# Altium footprint library INFINITY.Waveguide.PcbLib: 13 footprints
Each footprint in its own frame and in the unit in brackets; x right, y up, seen from the top. Pads: shape width x height; smd on the part's side, far side on the other; paste and mask are expansions set on the pad; w line width, h text height; cw(c..) or ccw(c..) is an arc to the next point about the centre after c.
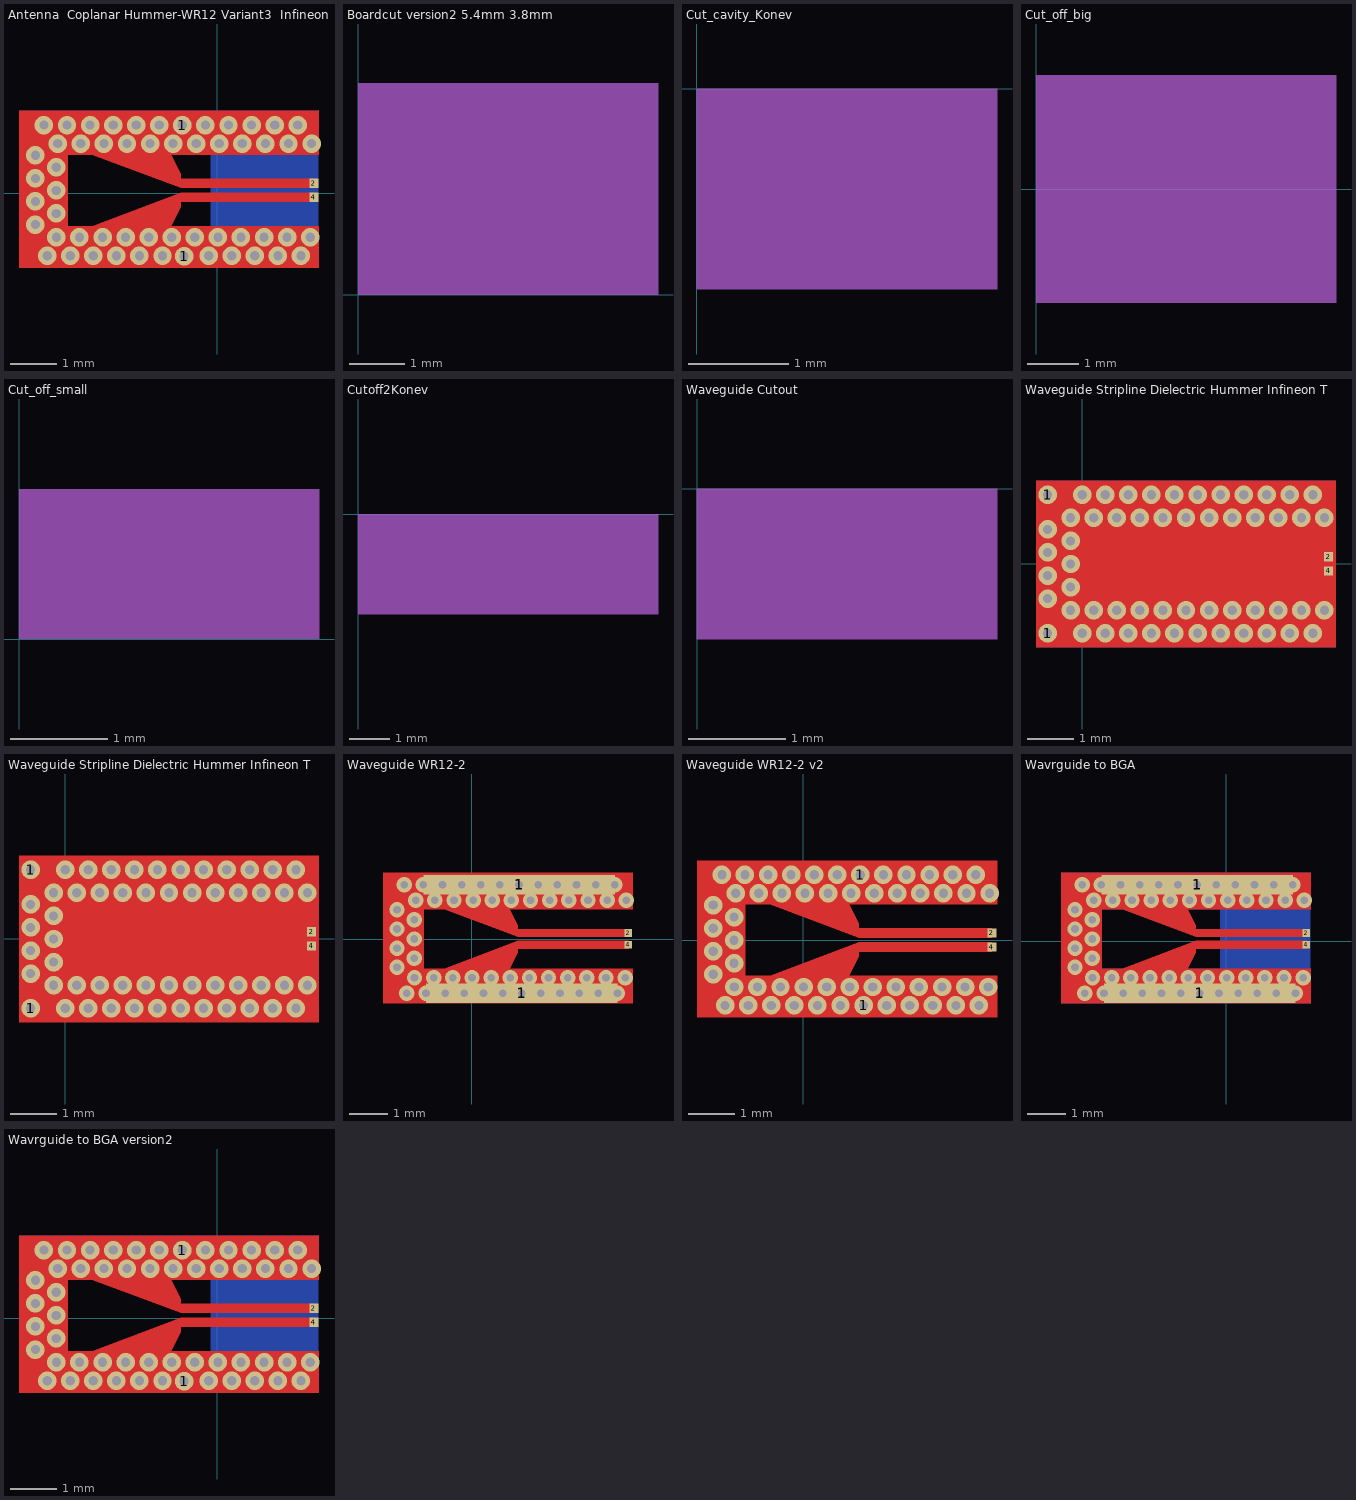
[diagram p0: the footprints below, top view; thin cyan lines are the x and y axes]

## Antenna  Coplanar Hummer-WR12 Variant3  Infineon Technologies [mm]
pads (4):
  round 0.4 smd paste+0 mask+0: 1(-0.76,1.48) 1(-0.724,-1.361)
  rect 0.2x0.2 smd paste+0 mask+0: 2(2.09,0.22) 4(2.09,-0.085)
via -2.46,1.08 diameter 0.4 hole 0.2
via -1.96,1.08 diameter 0.4 hole 0.2
via -2.76,1.48 diameter 0.4 hole 0.2
via -2.96,1.08 diameter 0.4 hole 0.2
via -2.26,1.48 diameter 0.4 hole 0.2
via -0.26,1.48 diameter 0.4 hole 0.2
via -0.46,1.08 diameter 0.4 hole 0.2
via -0.76,1.48 diameter 0.4 hole 0.2
via -0.96,1.08 diameter 0.4 hole 0.2
via -1.26,1.48 diameter 0.4 hole 0.2
via -1.46,1.08 diameter 0.4 hole 0.2
via -1.76,1.48 diameter 0.4 hole 0.2
via 0.04,1.08 diameter 0.4 hole 0.2
via 0.24,1.48 diameter 0.4 hole 0.2
via 0.54,1.08 diameter 0.4 hole 0.2
via 0.74,1.48 diameter 0.4 hole 0.2
via 1.04,1.08 diameter 0.4 hole 0.2
via 1.24,1.48 diameter 0.4 hole 0.2
via 1.54,1.08 diameter 0.4 hole 0.2
via 2.04,1.08 diameter 0.4 hole 0.2
via 1.74,1.48 diameter 0.4 hole 0.2
via -3.76,1.48 diameter 0.4 hole 0.2
via -3.26,1.48 diameter 0.4 hole 0.2
via -3.46,1.08 diameter 0.4 hole 0.2
via -3.945,0.825 diameter 0.4 hole 0.2
via -2.69,-1.35 diameter 0.4 hole 0.2
via -2.19,-1.35 diameter 0.4 hole 0.2
via -1.69,-1.35 diameter 0.4 hole 0.2
via -1.19,-1.35 diameter 0.4 hole 0.2
via -0.724,-1.361 diameter 0.4 hole 0.2
via -0.19,-1.35 diameter 0.4 hole 0.2
via 1.31,-1.35 diameter 0.4 hole 0.2
via 0.81,-1.35 diameter 0.4 hole 0.2
via 0.31,-1.35 diameter 0.4 hole 0.2
via 1.81,-1.35 diameter 0.4 hole 0.2
via -3.19,-1.35 diameter 0.4 hole 0.2
via -3.69,-1.35 diameter 0.4 hole 0.2
via -2.49,-0.95 diameter 0.4 hole 0.2
via -1.99,-0.95 diameter 0.4 hole 0.2
via -1.49,-0.95 diameter 0.4 hole 0.2
via -0.99,-0.95 diameter 0.4 hole 0.2
via -0.49,-0.95 diameter 0.4 hole 0.2
via 0.01,-0.95 diameter 0.4 hole 0.2
via 1.51,-0.95 diameter 0.4 hole 0.2
via 1.01,-0.95 diameter 0.4 hole 0.2
via 0.51,-0.95 diameter 0.4 hole 0.2
via 2.01,-0.95 diameter 0.4 hole 0.2
via -2.99,-0.95 diameter 0.4 hole 0.2
via -3.49,-0.95 diameter 0.4 hole 0.2
via -3.495,0.565 diameter 0.4 hole 0.2
via -3.495,0.065 diameter 0.4 hole 0.2
via -3.495,-0.435 diameter 0.4 hole 0.2
via -3.945,0.325 diameter 0.4 hole 0.2
via -3.945,-0.175 diameter 0.4 hole 0.2
via -3.945,-0.675 diameter 0.4 hole 0.2
Metall 1:
  region: -3.249,-0.71 -3.249,0.84 -2.719,0.84 -0.798,0.12 2.09,0.12 2.09,0.32 -0.798,0.32 -0.798,0.423 -1.005,0.84 2.201,0.84 2.201,1.79 -4.299,1.79 -4.299,-1.61 2.201,-1.61 2.201,-0.71 -0.999,-0.71 -0.798,-0.295 -0.798,-0.185 2.09,-0.185 2.09,0.015 -0.798,0.015 -2.714,-0.71
Metall 3:
  region: 2.2,1.79 -4.3,1.79 -4.3,0.84 2.2,0.84
  region: 2.2,-0.71 -4.3,-0.71 -4.3,-1.61 2.2,-1.61
  region: 2.2,1.79 2.19,1.8 2.19,-1.6 2.18,-1.61 -0.15,-1.61 -0.15,1.79
  region: -4.3,1.79 -4.3,-1.61 -3.25,-1.61 -3.25,1.79

## Boardcut version2 5.4mm 3.8mm [mm]
height 5
Mechanical 1:
  cavity: 0,0 5.4,0 5.4,3.8 0,3.8

## Cut_cavity_Konev [mm] "Cut_cavity_Konev"
height 5
Mechanical 1:
  cavity: 0,0 3,0 3,-2 0,-2

## Cut_off_big [mm]
Mechanical 1:
  cavity: 0,2.2 5.8,2.2 5.8,-2.2 0,-2.2

## Cut_off_small [mm] "Cut_off_small"
Mechanical 1:
  cavity: 0,1.55 3.1,1.55 3.1,0 0,0

## Cutoff2Konev [mm]
height 5
Mechanical 13:
  cavity: 0,0 7.5,0 7.5,-2.5 0,-2.5

## Waveguide Cutout [mm]
height 5
Mechanical 13:
  cavity: 0,0 3.099,0 3.099,-1.55 0,-1.55
3D body "Cutout_1.1mm.STEP": height 0, standoff -1.1, extent 0,-1.55 3.099,0

## Waveguide Stripline Dielectric Hummer Infineon Technologies WR-12 version1 [mm]
pads (4):
  round 0.4 smd paste+0 mask+0: 1(-0.75,-1.5) 1(-0.75,1.5)
  rect 0.2x0.2 smd paste+0 mask+0: 2(5.339,0.155) 4(5.339,-0.15)
via 2.5,-1.5 diameter 0.4 hole 0.2
via 0.25,-1 diameter 0.4 hole 0.2
via -0.25,-0.5 diameter 0.4 hole 0.2
via -0.25,0.5 diameter 0.4 hole 0.2
via -0.25,0 diameter 0.4 hole 0.2
via -0.75,-1.5 diameter 0.4 hole 0.2
via -0.75,1.5 diameter 0.4 hole 0.2
via 0.75,-1 diameter 0.4 hole 0.2
via 1.25,-1 diameter 0.4 hole 0.2
via 1.75,-1 diameter 0.4 hole 0.2
via 2.25,-1 diameter 0.4 hole 0.2
via 2.75,-1 diameter 0.4 hole 0.2
via 3.25,-1 diameter 0.4 hole 0.2
via 3.75,-1 diameter 0.4 hole 0.2
via 1.25,1 diameter 0.4 hole 0.2
via 1.75,1 diameter 0.4 hole 0.2
via 2.25,1 diameter 0.4 hole 0.2
via 2.75,1 diameter 0.4 hole 0.2
via 3.25,1 diameter 0.4 hole 0.2
via 3.75,1 diameter 0.4 hole 0.2
via 4.25,1 diameter 0.4 hole 0.2
via 4.75,1 diameter 0.4 hole 0.2
via 5.25,1 diameter 0.4 hole 0.2
via -0.25,-1 diameter 0.4 hole 0.2
via 4.25,-1 diameter 0.4 hole 0.2
via 4.75,-1 diameter 0.4 hole 0.2
via 5.25,-1 diameter 0.4 hole 0.2
via 0.25,1 diameter 0.4 hole 0.2
via 0.75,1 diameter 0.4 hole 0.2
via -0.25,1 diameter 0.4 hole 0.2
via -0.75,0.75 diameter 0.4 hole 0.2
via -0.75,0.25 diameter 0.4 hole 0.2
via -0.75,-0.25 diameter 0.4 hole 0.2
via -0.75,-0.75 diameter 0.4 hole 0.2
via 0,-1.5 diameter 0.4 hole 0.2
via 0.5,-1.5 diameter 0.4 hole 0.2
via 1,-1.5 diameter 0.4 hole 0.2
via 1.5,-1.5 diameter 0.4 hole 0.2
via 2,-1.5 diameter 0.4 hole 0.2
via 3,-1.5 diameter 0.4 hole 0.2
via 3.5,-1.5 diameter 0.4 hole 0.2
via 4,-1.5 diameter 0.4 hole 0.2
via 4.5,-1.5 diameter 0.4 hole 0.2
via 5,-1.5 diameter 0.4 hole 0.2
via 5,1.5 diameter 0.4 hole 0.2
via 4.5,1.5 diameter 0.4 hole 0.2
via 4,1.5 diameter 0.4 hole 0.2
via 3.5,1.5 diameter 0.4 hole 0.2
via 3,1.5 diameter 0.4 hole 0.2
via 2.5,1.5 diameter 0.4 hole 0.2
via 2,1.5 diameter 0.4 hole 0.2
via 1.5,1.5 diameter 0.4 hole 0.2
via 1,1.5 diameter 0.4 hole 0.2
via 0.5,1.5 diameter 0.4 hole 0.2
via 0,1.5 diameter 0.4 hole 0.2
Metall 1:
  region: 0,-0.775 0,0.775 0.53,0.775 2.451,0.055 5.339,0.055 5.339,0.255 2.451,0.255 2.451,0.358 2.244,0.775 5.5,0.775 5.5,1.8 -1,1.8 -1,-1.8 5.5,-1.8 5.5,-0.775 2.25,-0.775 2.451,-0.36 2.451,-0.25 5.339,-0.25 5.339,-0.05 2.451,-0.05 0.535,-0.775
  pour cut-out: 0,-0.775 5.5,-0.775 5.5,0.775 0,0.775
Metall 3:
  pour cut-out: 0,0.775 3.1,0.775 3.1,-0.775 0,-0.775
  region: -1,1.725 -1,-1.675 -0.001,-1.675 -0.001,1.725
  region: 5.5,1.8 5.5,-1.8 3.099,-1.8 3.099,1.8
  region: 5.5,-0.775 -1,-0.775 -1,-1.8 5.5,-1.8
  region: 5.5,1.8 -1,1.8 -1,0.775 5.5,0.775
Bottom Overlay:
  lines w0.1: 0,-0.775 0,0.775 3.1,0.775 3.1,-0.775 0,-0.775

## Waveguide Stripline Dielectric Hummer Infineon Technologies WR-12 version2 [mm]
pads (4):
  round 0.4 smd paste+0 mask+0: 1(-0.75,-1.5) 1(-0.75,1.5)
  rect 0.2x0.2 smd paste+0 mask+0: 2(5.339,0.155) 4(5.339,-0.15)
via 2.5,-1.5 diameter 0.4 hole 0.2
via 0.25,-1 diameter 0.4 hole 0.2
via -0.25,-0.5 diameter 0.4 hole 0.2
via -0.25,0.5 diameter 0.4 hole 0.2
via -0.25,0 diameter 0.4 hole 0.2
via -0.75,-1.5 diameter 0.4 hole 0.2
via -0.75,1.5 diameter 0.4 hole 0.2
via 0.75,-1 diameter 0.4 hole 0.2
via 1.25,-1 diameter 0.4 hole 0.2
via 1.75,-1 diameter 0.4 hole 0.2
via 2.25,-1 diameter 0.4 hole 0.2
via 2.75,-1 diameter 0.4 hole 0.2
via 3.25,-1 diameter 0.4 hole 0.2
via 3.75,-1 diameter 0.4 hole 0.2
via 1.25,1 diameter 0.4 hole 0.2
via 1.75,1 diameter 0.4 hole 0.2
via 2.25,1 diameter 0.4 hole 0.2
via 2.75,1 diameter 0.4 hole 0.2
via 3.25,1 diameter 0.4 hole 0.2
via 3.75,1 diameter 0.4 hole 0.2
via 4.25,1 diameter 0.4 hole 0.2
via 4.75,1 diameter 0.4 hole 0.2
via 5.25,1 diameter 0.4 hole 0.2
via -0.25,-1 diameter 0.4 hole 0.2
via 4.25,-1 diameter 0.4 hole 0.2
via 4.75,-1 diameter 0.4 hole 0.2
via 5.25,-1 diameter 0.4 hole 0.2
via 0.25,1 diameter 0.4 hole 0.2
via 0.75,1 diameter 0.4 hole 0.2
via -0.25,1 diameter 0.4 hole 0.2
via -0.75,0.75 diameter 0.4 hole 0.2
via -0.75,0.25 diameter 0.4 hole 0.2
via -0.75,-0.25 diameter 0.4 hole 0.2
via -0.75,-0.75 diameter 0.4 hole 0.2
via 0,-1.5 diameter 0.4 hole 0.2
via 0.5,-1.5 diameter 0.4 hole 0.2
via 1,-1.5 diameter 0.4 hole 0.2
via 1.5,-1.5 diameter 0.4 hole 0.2
via 2,-1.5 diameter 0.4 hole 0.2
via 3,-1.5 diameter 0.4 hole 0.2
via 3.5,-1.5 diameter 0.4 hole 0.2
via 4,-1.5 diameter 0.4 hole 0.2
via 4.5,-1.5 diameter 0.4 hole 0.2
via 5,-1.5 diameter 0.4 hole 0.2
via 5,1.5 diameter 0.4 hole 0.2
via 4.5,1.5 diameter 0.4 hole 0.2
via 4,1.5 diameter 0.4 hole 0.2
via 3.5,1.5 diameter 0.4 hole 0.2
via 3,1.5 diameter 0.4 hole 0.2
via 2.5,1.5 diameter 0.4 hole 0.2
via 2,1.5 diameter 0.4 hole 0.2
via 1.5,1.5 diameter 0.4 hole 0.2
via 1,1.5 diameter 0.4 hole 0.2
via 0.5,1.5 diameter 0.4 hole 0.2
via 0,1.5 diameter 0.4 hole 0.2
Metall 1:
  pour cut-out: 0,0.775 5.5,0.775 5.5,-0.775 0,-0.775
  region: 0,-0.775 0,0.775 0.53,0.775 2.451,0.055 5.339,0.055 5.339,0.255 2.451,0.255 2.451,0.358 2.244,0.775 5.5,0.775 5.5,1.8 -1,1.8 -1,-1.8 5.5,-1.8 5.5,-0.775 2.25,-0.775 2.451,-0.36 2.451,-0.25 5.339,-0.25 5.339,-0.05 2.451,-0.05 0.535,-0.775
Metall 2:
  pour cut-out: 0,0.775 0,-0.775 3.1,-0.775 3.1,0.775
  region: -1,1.725 -1,-1.675 -0.001,-1.675 -0.001,1.725
  region: 5.5,-0.775 -1,-0.775 -1,-1.8 5.5,-1.8
  region: 5.5,1.8 -1,1.8 -1,0.775 5.5,0.775
  region: 5.5,1.8 5.5,-1.8 3.099,-1.8 3.099,1.8
Metall 3:
  pour cut-out: 0,0.775 3.1,0.775 3.1,-0.775 0,-0.775

## Waveguide WR12-2 [mm]
pads (4):
  rect 5x0.5 smd paste+0 mask+0: 1(1.235,1.415) 1(1.305,-1.415)
  rect 0.2x0.2 smd paste+0 mask+0: 2(4.085,0.155) 4(4.085,-0.15)
via -1.95,-0.74 diameter 0.4 hole 0.2
via -1.95,-0.24 diameter 0.4 hole 0.2
via -1.95,0.26 diameter 0.4 hole 0.2
via -1.5,-0.5 diameter 0.4 hole 0.2
via -1.5,0 diameter 0.4 hole 0.2
via -1.5,0.5 diameter 0.4 hole 0.2
via -1.495,-1.015 diameter 0.4 hole 0.2
via -0.995,-1.015 diameter 0.4 hole 0.2
via 4.005,-1.015 diameter 0.4 hole 0.2
via 2.505,-1.015 diameter 0.4 hole 0.2
via 3.005,-1.015 diameter 0.4 hole 0.2
via 3.505,-1.015 diameter 0.4 hole 0.2
via 2.005,-1.015 diameter 0.4 hole 0.2
via 1.505,-1.015 diameter 0.4 hole 0.2
via 1.005,-1.015 diameter 0.4 hole 0.2
via 0.505,-1.015 diameter 0.4 hole 0.2
via 0.005,-1.015 diameter 0.4 hole 0.2
via -0.495,-1.015 diameter 0.4 hole 0.2
via -1.695,-1.415 diameter 0.4 hole 0.2
via -1.195,-1.415 diameter 0.4 hole 0.2
via 3.805,-1.415 diameter 0.4 hole 0.2
via 2.305,-1.415 diameter 0.4 hole 0.2
via 2.805,-1.415 diameter 0.4 hole 0.2
via 3.305,-1.415 diameter 0.4 hole 0.2
via 1.805,-1.415 diameter 0.4 hole 0.2
via 1.305,-1.415 diameter 0.4 hole 0.2
via 0.805,-1.415 diameter 0.4 hole 0.2
via 0.305,-1.415 diameter 0.4 hole 0.2
via -0.195,-1.415 diameter 0.4 hole 0.2
via -0.695,-1.415 diameter 0.4 hole 0.2
via -1.95,0.76 diameter 0.4 hole 0.2
via -1.465,1.015 diameter 0.4 hole 0.2
via -1.265,1.415 diameter 0.4 hole 0.2
via -1.765,1.415 diameter 0.4 hole 0.2
via 3.735,1.415 diameter 0.4 hole 0.2
via 4.035,1.015 diameter 0.4 hole 0.2
via 3.535,1.015 diameter 0.4 hole 0.2
via 3.235,1.415 diameter 0.4 hole 0.2
via 3.035,1.015 diameter 0.4 hole 0.2
via 2.735,1.415 diameter 0.4 hole 0.2
via 2.535,1.015 diameter 0.4 hole 0.2
via 2.235,1.415 diameter 0.4 hole 0.2
via 2.035,1.015 diameter 0.4 hole 0.2
via 0.235,1.415 diameter 0.4 hole 0.2
via 0.535,1.015 diameter 0.4 hole 0.2
via 0.735,1.415 diameter 0.4 hole 0.2
via 1.035,1.015 diameter 0.4 hole 0.2
via 1.235,1.415 diameter 0.4 hole 0.2
via 1.535,1.015 diameter 0.4 hole 0.2
via 1.735,1.415 diameter 0.4 hole 0.2
via -0.265,1.415 diameter 0.4 hole 0.2
via -0.965,1.015 diameter 0.4 hole 0.2
via -0.765,1.415 diameter 0.4 hole 0.2
via 0.035,1.015 diameter 0.4 hole 0.2
via -0.465,1.015 diameter 0.4 hole 0.2
Metall 1:
  region: -1.254,-0.775 -1.254,0.775 -0.724,0.775 1.197,0.055 4.085,0.055 4.085,0.255 1.197,0.255 1.197,0.358 0.99,0.775 4.196,0.775 4.196,1.725 -2.304,1.725 -2.304,-1.675 4.196,-1.675 4.196,-0.775 0.996,-0.775 1.197,-0.36 1.197,-0.25 4.085,-0.25 4.085,-0.05 1.197,-0.05 -0.719,-0.775

## Waveguide WR12-2 v2 [mm] "small pads"
pads (4):
  round 0.4 smd paste+0 mask+0: 1(1.235,1.415) 1(1.305,-1.415)
  rect 0.2x0.2 smd paste+0 mask+0: 2(4.085,0.155) 4(4.085,-0.15)
via -0.465,1.015 diameter 0.4 hole 0.2
via 0.035,1.015 diameter 0.4 hole 0.2
via -0.765,1.415 diameter 0.4 hole 0.2
via -0.965,1.015 diameter 0.4 hole 0.2
via -0.265,1.415 diameter 0.4 hole 0.2
via 1.735,1.415 diameter 0.4 hole 0.2
via 1.535,1.015 diameter 0.4 hole 0.2
via 1.235,1.415 diameter 0.4 hole 0.2
via 1.035,1.015 diameter 0.4 hole 0.2
via 0.735,1.415 diameter 0.4 hole 0.2
via 0.535,1.015 diameter 0.4 hole 0.2
via 0.235,1.415 diameter 0.4 hole 0.2
via 2.035,1.015 diameter 0.4 hole 0.2
via 2.235,1.415 diameter 0.4 hole 0.2
via 2.535,1.015 diameter 0.4 hole 0.2
via 2.735,1.415 diameter 0.4 hole 0.2
via 3.035,1.015 diameter 0.4 hole 0.2
via 3.235,1.415 diameter 0.4 hole 0.2
via 3.535,1.015 diameter 0.4 hole 0.2
via 4.035,1.015 diameter 0.4 hole 0.2
via 3.735,1.415 diameter 0.4 hole 0.2
via -1.765,1.415 diameter 0.4 hole 0.2
via -1.265,1.415 diameter 0.4 hole 0.2
via -1.465,1.015 diameter 0.4 hole 0.2
via -1.95,0.76 diameter 0.4 hole 0.2
via -0.695,-1.415 diameter 0.4 hole 0.2
via -0.195,-1.415 diameter 0.4 hole 0.2
via 0.305,-1.415 diameter 0.4 hole 0.2
via 0.805,-1.415 diameter 0.4 hole 0.2
via 1.305,-1.415 diameter 0.4 hole 0.2
via 1.805,-1.415 diameter 0.4 hole 0.2
via 3.305,-1.415 diameter 0.4 hole 0.2
via 2.805,-1.415 diameter 0.4 hole 0.2
via 2.305,-1.415 diameter 0.4 hole 0.2
via 3.805,-1.415 diameter 0.4 hole 0.2
via -1.195,-1.415 diameter 0.4 hole 0.2
via -1.695,-1.415 diameter 0.4 hole 0.2
via -0.495,-1.015 diameter 0.4 hole 0.2
via 0.005,-1.015 diameter 0.4 hole 0.2
via 0.505,-1.015 diameter 0.4 hole 0.2
via 1.005,-1.015 diameter 0.4 hole 0.2
via 1.505,-1.015 diameter 0.4 hole 0.2
via 2.005,-1.015 diameter 0.4 hole 0.2
via 3.505,-1.015 diameter 0.4 hole 0.2
via 3.005,-1.015 diameter 0.4 hole 0.2
via 2.505,-1.015 diameter 0.4 hole 0.2
via 4.005,-1.015 diameter 0.4 hole 0.2
via -0.995,-1.015 diameter 0.4 hole 0.2
via -1.495,-1.015 diameter 0.4 hole 0.2
via -1.5,0.5 diameter 0.4 hole 0.2
via -1.5,0 diameter 0.4 hole 0.2
via -1.5,-0.5 diameter 0.4 hole 0.2
via -1.95,0.26 diameter 0.4 hole 0.2
via -1.95,-0.24 diameter 0.4 hole 0.2
via -1.95,-0.74 diameter 0.4 hole 0.2
Metall 1:
  region: -1.254,-0.775 -1.254,0.775 -0.724,0.775 1.197,0.055 4.085,0.055 4.085,0.255 1.197,0.255 1.197,0.358 0.99,0.775 4.196,0.775 4.196,1.725 -2.304,1.725 -2.304,-1.675 4.196,-1.675 4.196,-0.775 0.996,-0.775 1.197,-0.36 1.197,-0.25 4.085,-0.25 4.085,-0.05 1.197,-0.05 -0.719,-0.775

## Wavrguide to BGA [mm]
pads (4):
  rect 5x0.5 smd paste+0 mask+0: 1(-0.76,1.48) 1(-0.69,-1.35)
  rect 0.2x0.2 smd paste+0 mask+0: 2(2.09,0.22) 4(2.09,-0.085)
via -2.46,1.08 diameter 0.4 hole 0.2
via -1.96,1.08 diameter 0.4 hole 0.2
via -2.76,1.48 diameter 0.4 hole 0.2
via -2.96,1.08 diameter 0.4 hole 0.2
via -2.26,1.48 diameter 0.4 hole 0.2
via -0.26,1.48 diameter 0.4 hole 0.2
via -0.46,1.08 diameter 0.4 hole 0.2
via -0.76,1.48 diameter 0.4 hole 0.2
via -0.96,1.08 diameter 0.4 hole 0.2
via -1.26,1.48 diameter 0.4 hole 0.2
via -1.46,1.08 diameter 0.4 hole 0.2
via -1.76,1.48 diameter 0.4 hole 0.2
via 0.04,1.08 diameter 0.4 hole 0.2
via 0.24,1.48 diameter 0.4 hole 0.2
via 0.54,1.08 diameter 0.4 hole 0.2
via 0.74,1.48 diameter 0.4 hole 0.2
via 1.04,1.08 diameter 0.4 hole 0.2
via 1.24,1.48 diameter 0.4 hole 0.2
via 1.54,1.08 diameter 0.4 hole 0.2
via 2.04,1.08 diameter 0.4 hole 0.2
via 1.74,1.48 diameter 0.4 hole 0.2
via -3.76,1.48 diameter 0.4 hole 0.2
via -3.26,1.48 diameter 0.4 hole 0.2
via -3.46,1.08 diameter 0.4 hole 0.2
via -3.945,0.825 diameter 0.4 hole 0.2
via -2.69,-1.35 diameter 0.4 hole 0.2
via -2.19,-1.35 diameter 0.4 hole 0.2
via -1.69,-1.35 diameter 0.4 hole 0.2
via -1.19,-1.35 diameter 0.4 hole 0.2
via -0.69,-1.35 diameter 0.4 hole 0.2
via -0.19,-1.35 diameter 0.4 hole 0.2
via 1.31,-1.35 diameter 0.4 hole 0.2
via 0.81,-1.35 diameter 0.4 hole 0.2
via 0.31,-1.35 diameter 0.4 hole 0.2
via 1.81,-1.35 diameter 0.4 hole 0.2
via -3.19,-1.35 diameter 0.4 hole 0.2
via -3.69,-1.35 diameter 0.4 hole 0.2
via -2.49,-0.95 diameter 0.4 hole 0.2
via -1.99,-0.95 diameter 0.4 hole 0.2
via -1.49,-0.95 diameter 0.4 hole 0.2
via -0.99,-0.95 diameter 0.4 hole 0.2
via -0.49,-0.95 diameter 0.4 hole 0.2
via 0.01,-0.95 diameter 0.4 hole 0.2
via 1.51,-0.95 diameter 0.4 hole 0.2
via 1.01,-0.95 diameter 0.4 hole 0.2
via 0.51,-0.95 diameter 0.4 hole 0.2
via 2.01,-0.95 diameter 0.4 hole 0.2
via -2.99,-0.95 diameter 0.4 hole 0.2
via -3.49,-0.95 diameter 0.4 hole 0.2
via -3.495,0.565 diameter 0.4 hole 0.2
via -3.495,0.065 diameter 0.4 hole 0.2
via -3.495,-0.435 diameter 0.4 hole 0.2
via -3.945,0.325 diameter 0.4 hole 0.2
via -3.945,-0.175 diameter 0.4 hole 0.2
via -3.945,-0.675 diameter 0.4 hole 0.2
Metall 1:
  region: -3.249,-0.71 -3.249,0.84 -2.719,0.84 -0.798,0.12 2.09,0.12 2.09,0.32 -0.798,0.32 -0.798,0.423 -1.005,0.84 2.201,0.84 2.201,1.79 -4.299,1.79 -4.299,-1.61 2.201,-1.61 2.201,-0.71 -0.999,-0.71 -0.798,-0.295 -0.798,-0.185 2.09,-0.185 2.09,0.015 -0.798,0.015 -2.714,-0.71
Metall 3:
  region: 2.2,1.79 -4.3,1.79 -4.3,0.84 2.2,0.84
  region: 2.2,-0.71 -4.3,-0.71 -4.3,-1.61 2.2,-1.61
  region: 2.2,1.79 2.19,1.8 2.19,-1.6 2.18,-1.61 -0.15,-1.61 -0.15,1.79
  region: -4.3,1.79 -4.3,-1.61 -3.25,-1.61 -3.25,1.79

## Wavrguide to BGA version2 [mm]
pads (4):
  round 0.4 smd paste+0 mask+0: 1(-0.76,1.48) 1(-0.724,-1.361)
  rect 0.2x0.2 smd paste+0 mask+0: 2(2.09,0.22) 4(2.09,-0.085)
via -2.46,1.08 diameter 0.4 hole 0.2
via -1.96,1.08 diameter 0.4 hole 0.2
via -2.76,1.48 diameter 0.4 hole 0.2
via -2.96,1.08 diameter 0.4 hole 0.2
via -2.26,1.48 diameter 0.4 hole 0.2
via -0.26,1.48 diameter 0.4 hole 0.2
via -0.46,1.08 diameter 0.4 hole 0.2
via -0.76,1.48 diameter 0.4 hole 0.2
via -0.96,1.08 diameter 0.4 hole 0.2
via -1.26,1.48 diameter 0.4 hole 0.2
via -1.46,1.08 diameter 0.4 hole 0.2
via -1.76,1.48 diameter 0.4 hole 0.2
via 0.04,1.08 diameter 0.4 hole 0.2
via 0.24,1.48 diameter 0.4 hole 0.2
via 0.54,1.08 diameter 0.4 hole 0.2
via 0.74,1.48 diameter 0.4 hole 0.2
via 1.04,1.08 diameter 0.4 hole 0.2
via 1.24,1.48 diameter 0.4 hole 0.2
via 1.54,1.08 diameter 0.4 hole 0.2
via 2.04,1.08 diameter 0.4 hole 0.2
via 1.74,1.48 diameter 0.4 hole 0.2
via -3.76,1.48 diameter 0.4 hole 0.2
via -3.26,1.48 diameter 0.4 hole 0.2
via -3.46,1.08 diameter 0.4 hole 0.2
via -3.945,0.825 diameter 0.4 hole 0.2
via -2.69,-1.35 diameter 0.4 hole 0.2
via -2.19,-1.35 diameter 0.4 hole 0.2
via -1.69,-1.35 diameter 0.4 hole 0.2
via -1.19,-1.35 diameter 0.4 hole 0.2
via -0.724,-1.361 diameter 0.4 hole 0.2
via -0.19,-1.35 diameter 0.4 hole 0.2
via 1.31,-1.35 diameter 0.4 hole 0.2
via 0.81,-1.35 diameter 0.4 hole 0.2
via 0.31,-1.35 diameter 0.4 hole 0.2
via 1.81,-1.35 diameter 0.4 hole 0.2
via -3.19,-1.35 diameter 0.4 hole 0.2
via -3.69,-1.35 diameter 0.4 hole 0.2
via -2.49,-0.95 diameter 0.4 hole 0.2
via -1.99,-0.95 diameter 0.4 hole 0.2
via -1.49,-0.95 diameter 0.4 hole 0.2
via -0.99,-0.95 diameter 0.4 hole 0.2
via -0.49,-0.95 diameter 0.4 hole 0.2
via 0.01,-0.95 diameter 0.4 hole 0.2
via 1.51,-0.95 diameter 0.4 hole 0.2
via 1.01,-0.95 diameter 0.4 hole 0.2
via 0.51,-0.95 diameter 0.4 hole 0.2
via 2.01,-0.95 diameter 0.4 hole 0.2
via -2.99,-0.95 diameter 0.4 hole 0.2
via -3.49,-0.95 diameter 0.4 hole 0.2
via -3.495,0.565 diameter 0.4 hole 0.2
via -3.495,0.065 diameter 0.4 hole 0.2
via -3.495,-0.435 diameter 0.4 hole 0.2
via -3.945,0.325 diameter 0.4 hole 0.2
via -3.945,-0.175 diameter 0.4 hole 0.2
via -3.945,-0.675 diameter 0.4 hole 0.2
Metall 1:
  region: -3.249,-0.71 -3.249,0.84 -2.719,0.84 -0.798,0.12 2.09,0.12 2.09,0.32 -0.798,0.32 -0.798,0.423 -1.005,0.84 2.201,0.84 2.201,1.79 -4.299,1.79 -4.299,-1.61 2.201,-1.61 2.201,-0.71 -0.999,-0.71 -0.798,-0.295 -0.798,-0.185 2.09,-0.185 2.09,0.015 -0.798,0.015 -2.714,-0.71
Metall 3:
  region: 2.2,1.79 -4.3,1.79 -4.3,0.84 2.2,0.84
  region: 2.2,-0.71 -4.3,-0.71 -4.3,-1.61 2.2,-1.61
  region: 2.2,1.79 2.19,1.8 2.19,-1.6 2.18,-1.61 -0.15,-1.61 -0.15,1.79
  region: -4.3,1.79 -4.3,-1.61 -3.25,-1.61 -3.25,1.79